# Altium integrated library Analog Devices Data Converters Analog-to-Digital Converters.IntLib: 2404 symbols (part 307 of 346)
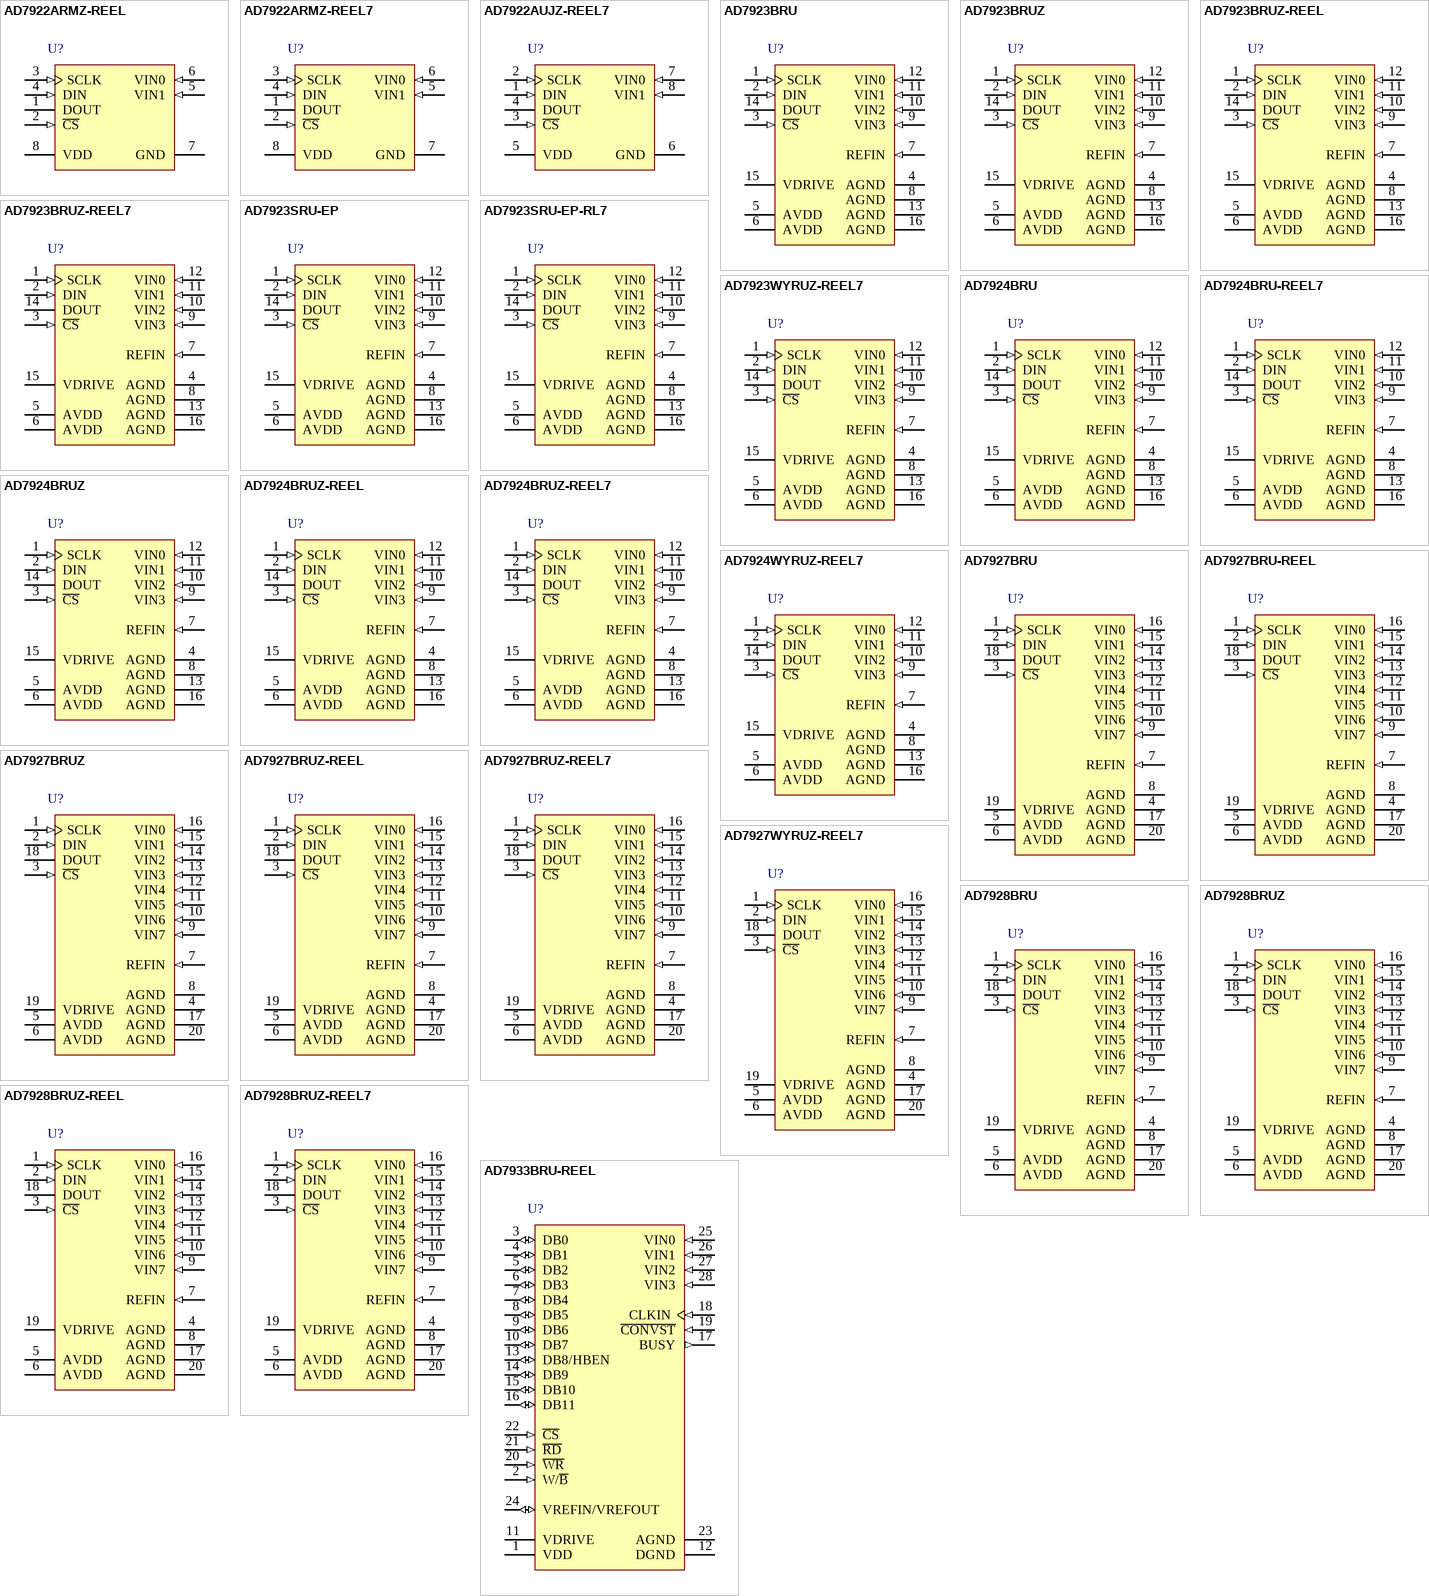
[diagram p319: symbols AD7922ARMZ-REEL to AD7933BRU-REEL]

## AD7923BRUZ
designator U?
Quad 12-Bit Analog-to-Digital Converter with Serial, SPI Interface and Sequencer, 200KSPS, 0 to +70 degC, RU-16, Pb-Free, Tube; Generic Part Number: AD7923; Manufacturer: Analog Devices; PartNumber: AD7923BRUZ; Resolution (Bits): 12; Channels: 4; Throughput Rate (SPS): 200K; Interface: Ser, SPI; Automotive Qualified: Yes; DatasheetVersion: Rev.C; PackageVersion: Nov-2002; PackageReference: RU-16; PackageDescription: 16-Lead Thin Shrink Small Outline Package [TSSOP]; Supplier 1: Digi-Key; Supplier Part Number 1: AD7923BRUZ-ND; Supplier 2: Farnell; Supplier Part Number 2: 8397740; Supplier 3: Newark; Supplier Part Number 3: 19M0906; Supplier 4: Mouser; Supplier Part Number 4: 584-AD7923BRUZ; RoHS: Y; Packing: Tube; Mounting Technology: Surface Mount; Code_JEDEC: MO-153-AB; ComponentLink1Description: Manufacturer URL; ComponentLink1URL: http://www.analog.com/en/index.html; ComponentLink2Description: Datasheet; ComponentLink2URL: http://www.analog.com/static/imported-files/data_sheets/AD7923.pdf; ComponentLink3Description: Package Specification; ComponentLink3URL: http://www.analog.com/static/imported-files/packages/36244347913743854010197452789RU16.pdf; ComponentLink4Description: Product URL; ComponentLink4URL: http://www.analog.com/en/analog-to-digital-converters/ad-converters/ad7923/products/product.html
footprint RU-16_N (TSOP, 16-Leads, Body 5x4.4mm, Pitch 0.65mm, IPC Medium Density)
footprint RU-16_L (TSOP, 16-Leads, Body 5x4.4mm, Pitch 0.65mm, IPC High Density)
footprint RU-16_M (TSOP, 16-Leads, Body 5x4.4mm, Pitch 0.65mm, IPC Low Density)
pins: 1 SCLK (in) "Serial Clock. Logic Input. SCLK provides the serial clock for accessing data for the part. This clock input is also used as the clock source for the AD7923 conversion process.", 2 DIN (in) "Data In. Logic Input. Data to be written to the control register is provided on this input and is clocked into the register on the falling edge of SCLK (see the Control Register Descriptions section).", 3 ~{CS} (in) "Chip Select. Active low logic input. This input provides the dual function of initiating conversions on the AD7923 and framing the serial data transfer", 4 AGND (power) "Analog Ground. Ground reference point for all analog circuitry on the AD7923. All analog input signals and any external reference signal should be referred to this AGND voltage. All AGND pins should be connected together.", 5 AVDD (power) "Analog Power Supply Input. The AVDD range for the AD7923 is from 2.7 V to 5.25 V. For the 0 V to 2 x REFIN range, AVDD should be from 4.75 V to 5.25 V.", 6 AVDD (power) "Analog Power Supply Input. The AVDD range for the AD7923 is from 2.7 V to 5.25 V. For the 0 V to 2 x REFIN range, AVDD should be from 4.75 V to 5.25 V.", 7 REFIN (in) "Reference Input for the AD7923. An external reference must be applied to this input. The voltage range for the external reference is 2.5 V +/- 1% for specified performance.", 8 AGND (power) "Analog Ground. Ground reference point for all analog circuitry on the AD7923. All analog input signals and any external reference signal should be referred to this AGND voltage. All AGND pins should be connected together.", 9 VIN3 (in) "Analog Input 0 through Analog Input 3. Four single-ended analog input channels that are multiplexed into the onchip track-and-hold. The analog input channel to be converted is selected by using the Address Bits ADD1 and ADD0 (See Datasheet)", 10 VIN2 (in) "Analog Input 0 through Analog Input 3. Four single-ended analog input channels that are multiplexed into the onchip track-and-hold. The analog input channel to be converted is selected by using the Address Bits ADD1 and ADD0 (See Datasheet)", 11 VIN1 (in) "Analog Input 0 through Analog Input 3. Four single-ended analog input channels that are multiplexed into the onchip track-and-hold. The analog input channel to be converted is selected by using the Address Bits ADD1 and ADD0 (See Datasheet)", 12 VIN0 (in) "Analog Input 0 through Analog Input 3. Four single-ended analog input channels that are multiplexed into the onchip track-and-hold. The analog input channel to be converted is selected by using the Address Bits ADD1 and ADD0 (See Datasheet)", 13 AGND (power) "Analog Ground. Ground reference point for all analog circuitry on the AD7923. All analog input signals and any external reference signal should be referred to this AGND voltage. All AGND pins should be connected together.", 14 DOUT (hiz) "Data Out. Logic Output. The conversion result from the AD7923 is provided on this output pin as a serial data stream. The AD7923 serial data stream consists of two leading 0s, and two address bits indicating which channel (See Datasheet)", 15 VDRIVE (power) "Logic Power Supply Input. The voltage supplied at this pin determines at which voltage the serial interface operates.", 16 AGND (power) "Analog Ground. Ground reference point for all analog circuitry on the AD7923. All analog input signals and any external reference signal should be referred to this AGND voltage. All AGND pins should be connected together."

## AD7923BRUZ-REEL
designator U?
Quad 12-Bit Analog-to-Digital Converter with Serial, SPI Interface and Sequencer, 200KSPS, 0 to +70 degC, RU-16, Pb-Free, Reel; Generic Part Number: AD7923; Manufacturer: Analog Devices; PartNumber: AD7923BRUZ-REEL; Resolution (Bits): 12; Channels: 4; Throughput Rate (SPS): 200K; Interface: Ser, SPI; Automotive Qualified: Yes; DatasheetVersion: Rev.C; PackageVersion: Nov-2002; PackageReference: RU-16; PackageDescription: 16-Lead Thin Shrink Small Outline Package [TSSOP]; Supplier 1: Digi-Key; Supplier Part Number 1: AD7923BRUZ-REEL-ND; Supplier 2: Newark; Supplier Part Number 2: 59K6011; Supplier 3: Mouser; Supplier Part Number 3: 584-AD7923BRUZ-R; RoHS: Y; Packing: Reel; Mounting Technology: Surface Mount; Code_JEDEC: MO-153-AB; ComponentLink1Description: Manufacturer URL; ComponentLink1URL: http://www.analog.com/en/index.html; ComponentLink2Description: Datasheet; ComponentLink2URL: http://www.analog.com/static/imported-files/data_sheets/AD7923.pdf; ComponentLink3Description: Package Specification; ComponentLink3URL: http://www.analog.com/static/imported-files/packages/36244347913743854010197452789RU16.pdf; ComponentLink4Description: Product URL; ComponentLink4URL: http://www.analog.com/en/analog-to-digital-converters/ad-converters/ad7923/products/product.html
footprint RU-16_N (TSOP, 16-Leads, Body 5x4.4mm, Pitch 0.65mm, IPC Medium Density)
footprint RU-16_L (TSOP, 16-Leads, Body 5x4.4mm, Pitch 0.65mm, IPC High Density)
footprint RU-16_M (TSOP, 16-Leads, Body 5x4.4mm, Pitch 0.65mm, IPC Low Density)
pins: 1 SCLK (in) "Serial Clock. Logic Input. SCLK provides the serial clock for accessing data for the part. This clock input is also used as the clock source for the AD7923 conversion process.", 2 DIN (in) "Data In. Logic Input. Data to be written to the control register is provided on this input and is clocked into the register on the falling edge of SCLK (see the Control Register Descriptions section).", 3 ~{CS} (in) "Chip Select. Active low logic input. This input provides the dual function of initiating conversions on the AD7923 and framing the serial data transfer", 4 AGND (power) "Analog Ground. Ground reference point for all analog circuitry on the AD7923. All analog input signals and any external reference signal should be referred to this AGND voltage. All AGND pins should be connected together.", 5 AVDD (power) "Analog Power Supply Input. The AVDD range for the AD7923 is from 2.7 V to 5.25 V. For the 0 V to 2 x REFIN range, AVDD should be from 4.75 V to 5.25 V.", 6 AVDD (power) "Analog Power Supply Input. The AVDD range for the AD7923 is from 2.7 V to 5.25 V. For the 0 V to 2 x REFIN range, AVDD should be from 4.75 V to 5.25 V.", 7 REFIN (in) "Reference Input for the AD7923. An external reference must be applied to this input. The voltage range for the external reference is 2.5 V +/- 1% for specified performance.", 8 AGND (power) "Analog Ground. Ground reference point for all analog circuitry on the AD7923. All analog input signals and any external reference signal should be referred to this AGND voltage. All AGND pins should be connected together.", 9 VIN3 (in) "Analog Input 0 through Analog Input 3. Four single-ended analog input channels that are multiplexed into the onchip track-and-hold. The analog input channel to be converted is selected by using the Address Bits ADD1 and ADD0 (See Datasheet)", 10 VIN2 (in) "Analog Input 0 through Analog Input 3. Four single-ended analog input channels that are multiplexed into the onchip track-and-hold. The analog input channel to be converted is selected by using the Address Bits ADD1 and ADD0 (See Datasheet)", 11 VIN1 (in) "Analog Input 0 through Analog Input 3. Four single-ended analog input channels that are multiplexed into the onchip track-and-hold. The analog input channel to be converted is selected by using the Address Bits ADD1 and ADD0 (See Datasheet)", 12 VIN0 (in) "Analog Input 0 through Analog Input 3. Four single-ended analog input channels that are multiplexed into the onchip track-and-hold. The analog input channel to be converted is selected by using the Address Bits ADD1 and ADD0 (See Datasheet)", 13 AGND (power) "Analog Ground. Ground reference point for all analog circuitry on the AD7923. All analog input signals and any external reference signal should be referred to this AGND voltage. All AGND pins should be connected together.", 14 DOUT (hiz) "Data Out. Logic Output. The conversion result from the AD7923 is provided on this output pin as a serial data stream. The AD7923 serial data stream consists of two leading 0s, and two address bits indicating which channel (See Datasheet)", 15 VDRIVE (power) "Logic Power Supply Input. The voltage supplied at this pin determines at which voltage the serial interface operates.", 16 AGND (power) "Analog Ground. Ground reference point for all analog circuitry on the AD7923. All analog input signals and any external reference signal should be referred to this AGND voltage. All AGND pins should be connected together."

## AD7923BRUZ-REEL7
designator U?
Quad 12-Bit Analog-to-Digital Converter with Serial, SPI Interface and Sequencer, 200KSPS, 0 to +70 degC, RU-16, Pb-Free, Reel; Generic Part Number: AD7923; Manufacturer: Analog Devices; PartNumber: AD7923BRUZ-REEL7; Resolution (Bits): 12; Channels: 4; Throughput Rate (SPS): 200K; Interface: Ser, SPI; Automotive Qualified: Yes; DatasheetVersion: Rev.C; PackageVersion: Nov-2002; PackageReference: RU-16; PackageDescription: 16-Lead Thin Shrink Small Outline Package [TSSOP]; Supplier 1: Digi-Key; Supplier Part Number 1: AD7923BRUZ-REEL7TR-ND; Supplier 2: Digi-Key; Supplier Part Number 2: AD7923BRUZ-REEL7CT-ND; Supplier 3: Digi-Key; Supplier Part Number 3: AD7923BRUZ-REEL7DKR-ND; Supplier 4: Newark; Supplier Part Number 4: 59K6012; Supplier 5: Mouser; Supplier Part Number 5: 584-AD7923BRUZ-R7; RoHS: Y; Packing: Reel; Mounting Technology: Surface Mount; Code_JEDEC: MO-153-AB; ComponentLink1Description: Manufacturer URL; ComponentLink1URL: http://www.analog.com/en/index.html; ComponentLink2Description: Datasheet; ComponentLink2URL: http://www.analog.com/static/imported-files/data_sheets/AD7923.pdf; ComponentLink3Description: Package Specification; ComponentLink3URL: http://www.analog.com/static/imported-files/packages/36244347913743854010197452789RU16.pdf; ComponentLink4Description: Product URL; ComponentLink4URL: http://www.analog.com/en/analog-to-digital-converters/ad-converters/ad7923/products/product.html
footprint RU-16_N (TSOP, 16-Leads, Body 5x4.4mm, Pitch 0.65mm, IPC Medium Density)
footprint RU-16_L (TSOP, 16-Leads, Body 5x4.4mm, Pitch 0.65mm, IPC High Density)
footprint RU-16_M (TSOP, 16-Leads, Body 5x4.4mm, Pitch 0.65mm, IPC Low Density)
pins: 1 SCLK (in) "Serial Clock. Logic Input. SCLK provides the serial clock for accessing data for the part. This clock input is also used as the clock source for the AD7923 conversion process.", 2 DIN (in) "Data In. Logic Input. Data to be written to the control register is provided on this input and is clocked into the register on the falling edge of SCLK (see the Control Register Descriptions section).", 3 ~{CS} (in) "Chip Select. Active low logic input. This input provides the dual function of initiating conversions on the AD7923 and framing the serial data transfer", 4 AGND (power) "Analog Ground. Ground reference point for all analog circuitry on the AD7923. All analog input signals and any external reference signal should be referred to this AGND voltage. All AGND pins should be connected together.", 5 AVDD (power) "Analog Power Supply Input. The AVDD range for the AD7923 is from 2.7 V to 5.25 V. For the 0 V to 2 x REFIN range, AVDD should be from 4.75 V to 5.25 V.", 6 AVDD (power) "Analog Power Supply Input. The AVDD range for the AD7923 is from 2.7 V to 5.25 V. For the 0 V to 2 x REFIN range, AVDD should be from 4.75 V to 5.25 V.", 7 REFIN (in) "Reference Input for the AD7923. An external reference must be applied to this input. The voltage range for the external reference is 2.5 V +/- 1% for specified performance.", 8 AGND (power) "Analog Ground. Ground reference point for all analog circuitry on the AD7923. All analog input signals and any external reference signal should be referred to this AGND voltage. All AGND pins should be connected together.", 9 VIN3 (in) "Analog Input 0 through Analog Input 3. Four single-ended analog input channels that are multiplexed into the onchip track-and-hold. The analog input channel to be converted is selected by using the Address Bits ADD1 and ADD0 (See Datasheet)", 10 VIN2 (in) "Analog Input 0 through Analog Input 3. Four single-ended analog input channels that are multiplexed into the onchip track-and-hold. The analog input channel to be converted is selected by using the Address Bits ADD1 and ADD0 (See Datasheet)", 11 VIN1 (in) "Analog Input 0 through Analog Input 3. Four single-ended analog input channels that are multiplexed into the onchip track-and-hold. The analog input channel to be converted is selected by using the Address Bits ADD1 and ADD0 (See Datasheet)", 12 VIN0 (in) "Analog Input 0 through Analog Input 3. Four single-ended analog input channels that are multiplexed into the onchip track-and-hold. The analog input channel to be converted is selected by using the Address Bits ADD1 and ADD0 (See Datasheet)", 13 AGND (power) "Analog Ground. Ground reference point for all analog circuitry on the AD7923. All analog input signals and any external reference signal should be referred to this AGND voltage. All AGND pins should be connected together.", 14 DOUT (hiz) "Data Out. Logic Output. The conversion result from the AD7923 is provided on this output pin as a serial data stream. The AD7923 serial data stream consists of two leading 0s, and two address bits indicating which channel (See Datasheet)", 15 VDRIVE (power) "Logic Power Supply Input. The voltage supplied at this pin determines at which voltage the serial interface operates.", 16 AGND (power) "Analog Ground. Ground reference point for all analog circuitry on the AD7923. All analog input signals and any external reference signal should be referred to this AGND voltage. All AGND pins should be connected together."

## AD7923SRU-EP
designator U?
Quad 12-Bit Analog-to-Digital Converter with Serial, SPI Interface and Sequencer, 200KSPS, 0 to +70 degC, RU-16, Tube; Generic Part Number: AD7923; Manufacturer: Analog Devices; PartNumber: AD7923SRU-EP; Resolution (Bits): 12; Channels: 4; Throughput Rate (SPS): 200K; Interface: Ser, SPI; Automotive Qualified: Yes; DatasheetVersion: Rev.0; PackageVersion: Nov-2002; PackageReference: RU-16; PackageDescription: 16-Lead Thin Shrink Small Outline Package [TSSOP]; Supplier 1: Digi-Key; Supplier Part Number 1: AD7923SRU-EP-ND; Supplier 2: Mouser; Supplier Part Number 2: 584-AD7923SRU-EP; RoHS: N; Packing: Tube; Mounting Technology: Surface Mount; Code_JEDEC: MO-153-AB; ComponentLink1Description: Manufacturer URL; ComponentLink1URL: http://www.analog.com/en/index.html; ComponentLink2Description: Datasheet; ComponentLink2URL: http://www.analog.com/static/imported-files/data_sheets/AD7923-EP.pdf; ComponentLink3Description: Package Specification; ComponentLink3URL: http://www.analog.com/static/imported-files/packages/36244347913743854010197452789RU16.pdf; ComponentLink4Description: Product URL; ComponentLink4URL: http://www.analog.com/en/analog-to-digital-converters/ad-converters/ad7923/products/product.html
footprint RU-16_N (TSOP, 16-Leads, Body 5x4.4mm, Pitch 0.65mm, IPC Medium Density)
footprint RU-16_L (TSOP, 16-Leads, Body 5x4.4mm, Pitch 0.65mm, IPC High Density)
footprint RU-16_M (TSOP, 16-Leads, Body 5x4.4mm, Pitch 0.65mm, IPC Low Density)
pins: 1 SCLK (in) "Serial Clock. Logic Input. SCLK provides the serial clock for accessing data for the part. This clock input is also used as the clock source for the AD7923 conversion process.", 2 DIN (in) "Data In. Logic Input. Data to be written to the control register is provided on this input and is clocked into the register on the falling edge of SCLK (see the Control Register Descriptions section).", 3 ~{CS} (in) "Chip Select. Active low logic input. This input provides the dual function of initiating conversions on the AD7923 and framing the serial data transfer", 4 AGND (power) "Analog Ground. Ground reference point for all analog circuitry on the AD7923. All analog input signals and any external reference signal should be referred to this AGND voltage. All AGND pins should be connected together.", 5 AVDD (power) "Analog Power Supply Input. The AVDD range for the AD7923 is from 2.7 V to 5.25 V. For the 0 V to 2 x REFIN range, AVDD should be from 4.75 V to 5.25 V.", 6 AVDD (power) "Analog Power Supply Input. The AVDD range for the AD7923 is from 2.7 V to 5.25 V. For the 0 V to 2 x REFIN range, AVDD should be from 4.75 V to 5.25 V.", 7 REFIN (in) "Reference Input for the AD7923. An external reference must be applied to this input. The voltage range for the external reference is 2.5 V +/- 1% for specified performance.", 8 AGND (power) "Analog Ground. Ground reference point for all analog circuitry on the AD7923. All analog input signals and any external reference signal should be referred to this AGND voltage. All AGND pins should be connected together.", 9 VIN3 (in) "Analog Input 0 through Analog Input 3. Four single-ended analog input channels that are multiplexed into the onchip track-and-hold. The analog input channel to be converted is selected by using the Address Bits ADD1 and ADD0 (See Datasheet)", 10 VIN2 (in) "Analog Input 0 through Analog Input 3. Four single-ended analog input channels that are multiplexed into the onchip track-and-hold. The analog input channel to be converted is selected by using the Address Bits ADD1 and ADD0 (See Datasheet)", 11 VIN1 (in) "Analog Input 0 through Analog Input 3. Four single-ended analog input channels that are multiplexed into the onchip track-and-hold. The analog input channel to be converted is selected by using the Address Bits ADD1 and ADD0 (See Datasheet)", 12 VIN0 (in) "Analog Input 0 through Analog Input 3. Four single-ended analog input channels that are multiplexed into the onchip track-and-hold. The analog input channel to be converted is selected by using the Address Bits ADD1 and ADD0 (See Datasheet)", 13 AGND (power) "Analog Ground. Ground reference point for all analog circuitry on the AD7923. All analog input signals and any external reference signal should be referred to this AGND voltage. All AGND pins should be connected together.", 14 DOUT (hiz) "Data Out. Logic Output. The conversion result from the AD7923 is provided on this output pin as a serial data stream. The AD7923 serial data stream consists of two leading 0s, and two address bits indicating which channel (See Datasheet)", 15 VDRIVE (power) "Logic Power Supply Input. The voltage supplied at this pin determines at which voltage the serial interface operates.", 16 AGND (power) "Analog Ground. Ground reference point for all analog circuitry on the AD7923. All analog input signals and any external reference signal should be referred to this AGND voltage. All AGND pins should be connected together."

## AD7923SRU-EP-RL7
designator U?
Quad 12-Bit Analog-to-Digital Converter with Serial, SPI Interface and Sequencer, 200KSPS, 0 to +70 degC, RU-16, Reel; Generic Part Number: AD7923; Manufacturer: Analog Devices; PartNumber: AD7923SRU-EP-RL7; Resolution (Bits): 12; Channels: 4; Throughput Rate (SPS): 200K; Interface: Ser, SPI; Automotive Qualified: Yes; DatasheetVersion: Rev.0; PackageVersion: Nov-2002; PackageReference: RU-16; PackageDescription: 16-Lead Thin Shrink Small Outline Package [TSSOP]; Supplier 1: Digi-Key; Supplier Part Number 1: AD7923SRU-EP-RL7-ND; Supplier 2: Mouser; Supplier Part Number 2: 584-AD7923SRU-EP-R7; RoHS: N; Packing: Reel; Mounting Technology: Surface Mount; Code_JEDEC: MO-153-AB; ComponentLink1Description: Manufacturer URL; ComponentLink1URL: http://www.analog.com/en/index.html; ComponentLink2Description: Datasheet; ComponentLink2URL: http://www.analog.com/static/imported-files/data_sheets/AD7923-EP.pdf; ComponentLink3Description: Package Specification; ComponentLink3URL: http://www.analog.com/static/imported-files/packages/36244347913743854010197452789RU16.pdf; ComponentLink4Description: Product URL; ComponentLink4URL: http://www.analog.com/en/analog-to-digital-converters/ad-converters/ad7923/products/product.html
footprint RU-16_N (TSOP, 16-Leads, Body 5x4.4mm, Pitch 0.65mm, IPC Medium Density)
footprint RU-16_L (TSOP, 16-Leads, Body 5x4.4mm, Pitch 0.65mm, IPC High Density)
footprint RU-16_M (TSOP, 16-Leads, Body 5x4.4mm, Pitch 0.65mm, IPC Low Density)
pins: 1 SCLK (in) "Serial Clock. Logic Input. SCLK provides the serial clock for accessing data for the part. This clock input is also used as the clock source for the AD7923 conversion process.", 2 DIN (in) "Data In. Logic Input. Data to be written to the control register is provided on this input and is clocked into the register on the falling edge of SCLK (see the Control Register Descriptions section).", 3 ~{CS} (in) "Chip Select. Active low logic input. This input provides the dual function of initiating conversions on the AD7923 and framing the serial data transfer", 4 AGND (power) "Analog Ground. Ground reference point for all analog circuitry on the AD7923. All analog input signals and any external reference signal should be referred to this AGND voltage. All AGND pins should be connected together.", 5 AVDD (power) "Analog Power Supply Input. The AVDD range for the AD7923 is from 2.7 V to 5.25 V. For the 0 V to 2 x REFIN range, AVDD should be from 4.75 V to 5.25 V.", 6 AVDD (power) "Analog Power Supply Input. The AVDD range for the AD7923 is from 2.7 V to 5.25 V. For the 0 V to 2 x REFIN range, AVDD should be from 4.75 V to 5.25 V.", 7 REFIN (in) "Reference Input for the AD7923. An external reference must be applied to this input. The voltage range for the external reference is 2.5 V +/- 1% for specified performance.", 8 AGND (power) "Analog Ground. Ground reference point for all analog circuitry on the AD7923. All analog input signals and any external reference signal should be referred to this AGND voltage. All AGND pins should be connected together.", 9 VIN3 (in) "Analog Input 0 through Analog Input 3. Four single-ended analog input channels that are multiplexed into the onchip track-and-hold. The analog input channel to be converted is selected by using the Address Bits ADD1 and ADD0 (See Datasheet)", 10 VIN2 (in) "Analog Input 0 through Analog Input 3. Four single-ended analog input channels that are multiplexed into the onchip track-and-hold. The analog input channel to be converted is selected by using the Address Bits ADD1 and ADD0 (See Datasheet)", 11 VIN1 (in) "Analog Input 0 through Analog Input 3. Four single-ended analog input channels that are multiplexed into the onchip track-and-hold. The analog input channel to be converted is selected by using the Address Bits ADD1 and ADD0 (See Datasheet)", 12 VIN0 (in) "Analog Input 0 through Analog Input 3. Four single-ended analog input channels that are multiplexed into the onchip track-and-hold. The analog input channel to be converted is selected by using the Address Bits ADD1 and ADD0 (See Datasheet)", 13 AGND (power) "Analog Ground. Ground reference point for all analog circuitry on the AD7923. All analog input signals and any external reference signal should be referred to this AGND voltage. All AGND pins should be connected together.", 14 DOUT (hiz) "Data Out. Logic Output. The conversion result from the AD7923 is provided on this output pin as a serial data stream. The AD7923 serial data stream consists of two leading 0s, and two address bits indicating which channel (See Datasheet)", 15 VDRIVE (power) "Logic Power Supply Input. The voltage supplied at this pin determines at which voltage the serial interface operates.", 16 AGND (power) "Analog Ground. Ground reference point for all analog circuitry on the AD7923. All analog input signals and any external reference signal should be referred to this AGND voltage. All AGND pins should be connected together."

## AD7923WYRUZ-REEL7
designator U?
Quad 12-Bit Analog-to-Digital Converter with Serial, SPI Interface and Sequencer, 200KSPS, -40 to +125 degC, RU-16, Pb-Free, Reel; Generic Part Number: AD7923; Manufacturer: Analog Devices; PartNumber: AD7923WYRUZ-REEL7; Resolution (Bits): 12; Channels: 4; Throughput Rate (SPS): 200K; Interface: Ser, SPI; Automotive Qualified: Yes; DatasheetVersion: Rev.C; PackageVersion: Nov-2002; PackageReference: RU-16; PackageDescription: 16-Lead Thin Shrink Small Outline Package [TSSOP]; Supplier 1: Digi-Key; Supplier Part Number 1: AD7923WYRUZ-REEL7TR-ND; Supplier 2: Digi-Key; Supplier Part Number 2: AD7923WYRUZ-REEL7CT-ND; Supplier 3: Digi-Key; Supplier Part Number 3: AD7923WYRUZ-REEL7DKR-ND; Supplier 4: Mouser; Supplier Part Number 4: 584-AD7923WYRUZ-R7; RoHS: Y; Packing: Reel; Mounting Technology: Surface Mount; Code_JEDEC: MO-153-AB; ComponentLink1Description: Manufacturer URL; ComponentLink1URL: http://www.analog.com/en/index.html; ComponentLink2Description: Datasheet; ComponentLink2URL: http://www.analog.com/static/imported-files/data_sheets/AD7923.pdf; ComponentLink3Description: Package Specification; ComponentLink3URL: http://www.analog.com/static/imported-files/packages/36244347913743854010197452789RU16.pdf; ComponentLink4Description: Product URL; ComponentLink4URL: http://www.analog.com/en/analog-to-digital-converters/ad-converters/ad7923/products/product.html
footprint RU-16_N (TSOP, 16-Leads, Body 5x4.4mm, Pitch 0.65mm, IPC Medium Density)
footprint RU-16_L (TSOP, 16-Leads, Body 5x4.4mm, Pitch 0.65mm, IPC High Density)
footprint RU-16_M (TSOP, 16-Leads, Body 5x4.4mm, Pitch 0.65mm, IPC Low Density)
pins: 1 SCLK (in) "Serial Clock. Logic Input. SCLK provides the serial clock for accessing data for the part. This clock input is also used as the clock source for the AD7923 conversion process.", 2 DIN (in) "Data In. Logic Input. Data to be written to the control register is provided on this input and is clocked into the register on the falling edge of SCLK (see the Control Register Descriptions section).", 3 ~{CS} (in) "Chip Select. Active low logic input. This input provides the dual function of initiating conversions on the AD7923 and framing the serial data transfer", 4 AGND (power) "Analog Ground. Ground reference point for all analog circuitry on the AD7923. All analog input signals and any external reference signal should be referred to this AGND voltage. All AGND pins should be connected together.", 5 AVDD (power) "Analog Power Supply Input. The AVDD range for the AD7923 is from 2.7 V to 5.25 V. For the 0 V to 2 x REFIN range, AVDD should be from 4.75 V to 5.25 V.", 6 AVDD (power) "Analog Power Supply Input. The AVDD range for the AD7923 is from 2.7 V to 5.25 V. For the 0 V to 2 x REFIN range, AVDD should be from 4.75 V to 5.25 V.", 7 REFIN (in) "Reference Input for the AD7923. An external reference must be applied to this input. The voltage range for the external reference is 2.5 V +/- 1% for specified performance.", 8 AGND (power) "Analog Ground. Ground reference point for all analog circuitry on the AD7923. All analog input signals and any external reference signal should be referred to this AGND voltage. All AGND pins should be connected together.", 9 VIN3 (in) "Analog Input 0 through Analog Input 3. Four single-ended analog input channels that are multiplexed into the onchip track-and-hold. The analog input channel to be converted is selected by using the Address Bits ADD1 and ADD0 (See Datasheet)", 10 VIN2 (in) "Analog Input 0 through Analog Input 3. Four single-ended analog input channels that are multiplexed into the onchip track-and-hold. The analog input channel to be converted is selected by using the Address Bits ADD1 and ADD0 (See Datasheet)", 11 VIN1 (in) "Analog Input 0 through Analog Input 3. Four single-ended analog input channels that are multiplexed into the onchip track-and-hold. The analog input channel to be converted is selected by using the Address Bits ADD1 and ADD0 (See Datasheet)", 12 VIN0 (in) "Analog Input 0 through Analog Input 3. Four single-ended analog input channels that are multiplexed into the onchip track-and-hold. The analog input channel to be converted is selected by using the Address Bits ADD1 and ADD0 (See Datasheet)", 13 AGND (power) "Analog Ground. Ground reference point for all analog circuitry on the AD7923. All analog input signals and any external reference signal should be referred to this AGND voltage. All AGND pins should be connected together.", 14 DOUT (hiz) "Data Out. Logic Output. The conversion result from the AD7923 is provided on this output pin as a serial data stream. The AD7923 serial data stream consists of two leading 0s, and two address bits indicating which channel (See Datasheet)", 15 VDRIVE (power) "Logic Power Supply Input. The voltage supplied at this pin determines at which voltage the serial interface operates.", 16 AGND (power) "Analog Ground. Ground reference point for all analog circuitry on the AD7923. All analog input signals and any external reference signal should be referred to this AGND voltage. All AGND pins should be connected together."

## AD7924BRU
designator U?
Quad 12-Bit Analog-to-Digital Converter with Serial, SPI Interface and Sequencer, 1MSPS, -40 to +85 degC, RU-16, Tube; Generic Part Number: AD7924; Manufacturer: Analog Devices; PartNumber: AD7924BRU; Resolution (Bits): 12; Channels: 4; Throughput Rate (SPS): 1M; Interface: Ser, SPI; Automotive Qualified: Yes; DatasheetVersion: Rev.B; PackageVersion: Nov-2002; PackageReference: RU-16; PackageDescription: 16-Lead Thin Shrink Small Outline Package [TSSOP]; Supplier 1: Digi-Key; Supplier Part Number 1: AD7924BRU-ND; Supplier 2: Mouser; Supplier Part Number 2: 584-AD7924BRU; RoHS: N; Packing: Tube; Mounting Technology: Surface Mount; Code_JEDEC: MO-153-AB; ComponentLink1Description: Manufacturer URL; ComponentLink1URL: http://www.analog.com/en/index.html; ComponentLink2Description: Datasheet; ComponentLink2URL: http://www.analog.com/static/imported-files/data_sheets/AD7904_7914_7924.pdf; ComponentLink3Description: Package Specification; ComponentLink3URL: http://www.analog.com/static/imported-files/packages/36244347913743854010197452789RU16.pdf; ComponentLink4Description: Product URL; ComponentLink4URL: http://www.analog.com/en/analog-to-digital-converters/ad-converters/ad7924/products/product.html
footprint RU-16_N (TSOP, 16-Leads, Body 5x4.4mm, Pitch 0.65mm, IPC Medium Density)
footprint RU-16_L (TSOP, 16-Leads, Body 5x4.4mm, Pitch 0.65mm, IPC High Density)
footprint RU-16_M (TSOP, 16-Leads, Body 5x4.4mm, Pitch 0.65mm, IPC Low Density)
pins: 1 SCLK (in) "Serial Clock, Logic Input. SCLK provides the serial clock for accessing data from the part. This clock input is also used as the clock source for the AD7904/AD7914/AD7924 conversion process.", 2 DIN (in) "Data In, Logic Input. Data to be written to the control register of the AD7904/AD7914/AD7924 is provided on this input and is clocked into the register on the falling edge of SCLK (see the Control Register section).", 3 ~{CS} (in) "Chip Select. Active low logic input. This input provides the dual function of initiating conversions on the AD7904/AD7914/AD7924 and frames the serial data transfer.", 4 AGND (power) "Analog Ground. Ground reference point for all analog circuitry on the AD7904/AD7914/AD7924. All analog input signals and any external reference signal should be referred to this AGND voltage. All AGND pins should be (See Datasheet)", 5 AVDD (power) "Analog Power Supply Input. The AVDD range for the AD7904/AD7914/AD7924 is from 2.7 V to 5.25 V. For the 0 V to 2 x REFIN range, AVDD should be from 4.75 V to 5.25 V.", 6 AVDD (power) "Analog Power Supply Input. The AVDD range for the AD7904/AD7914/AD7924 is from 2.7 V to 5.25 V. For the 0 V to 2 x REFIN range, AVDD should be from 4.75 V to 5.25 V.", 7 REFIN (in) "Reference Input for the AD7904/AD7914/AD7924. An external reference must be applied to this input. The voltage range for the external reference is 2.5 V +/- 1% for specified performance.", 8 AGND (power) "Analog Ground. Ground reference point for all analog circuitry on the AD7904/AD7914/AD7924. All analog input signals and any external reference signal should be referred to this AGND voltage. All AGND pins should be (See Datasheet)", 9 VIN3 (in) "Analog Input 0 through Analog Input 3. The four single-ended analog input channels are multiplexed into the on-chip track-and-hold. The analog input channel to be converted is selected using the address bits ADD1 and ADD0 of (See Datasheet)", 10 VIN2 (in) "Analog Input 0 through Analog Input 3. The four single-ended analog input channels are multiplexed into the on-chip track-and-hold. The analog input channel to be converted is selected using the address bits ADD1 and ADD0 of (See Datasheet)", 11 VIN1 (in) "Analog Input 0 through Analog Input 3. The four single-ended analog input channels are multiplexed into the on-chip track-and-hold. The analog input channel to be converted is selected using the address bits ADD1 and ADD0 of (See Datasheet)", 12 VIN0 (in) "Analog Input 0 through Analog Input 3. The four single-ended analog input channels are multiplexed into the on-chip track-and-hold. The analog input channel to be converted is selected using the address bits ADD1 and ADD0 of (See Datasheet)", 13 AGND (power) "Analog Ground. Ground reference point for all analog circuitry on the AD7904/AD7914/AD7924. All analog input signals and any external reference signal should be referred to this AGND voltage. All AGND pins should be (See Datasheet)", 14 DOUT (hiz) "Data Out, Logic Output. The conversion result from the AD7904/AD7914/AD7924 is provided on this output as a serial data stream. The bits are clocked out on the falling edge of the SCLK input. The data stream from the AD7904 (See Datasheet)", 15 VDRIVE (power) "Logic Power Supply Input. The voltage supplied at this pin determines the voltage at which the serial interface of the AD7904/AD7914/AD7924 operates.", 16 AGND (power) "Analog Ground. Ground reference point for all analog circuitry on the AD7904/AD7914/AD7924. All analog input signals and any external reference signal should be referred to this AGND voltage. All AGND pins should be (See Datasheet)"

## AD7924BRU-REEL7
designator U?
Quad 12-Bit Analog-to-Digital Converter with Serial, SPI Interface and Sequencer, 1MSPS, -40 to +85 degC, RU-16, Reel; Generic Part Number: AD7924; Manufacturer: Analog Devices; PartNumber: AD7924BRU-REEL7; Resolution (Bits): 12; Channels: 4; Throughput Rate (SPS): 1M; Interface: Ser, SPI; Automotive Qualified: Yes; DatasheetVersion: Rev.B; PackageVersion: Nov-2002; PackageReference: RU-16; PackageDescription: 16-Lead Thin Shrink Small Outline Package [TSSOP]; Supplier 1: Mouser; Supplier Part Number 1: N/A; RoHS: N; Packing: Reel; Mounting Technology: Surface Mount; Code_JEDEC: MO-153-AB; ComponentLink1Description: Manufacturer URL; ComponentLink1URL: http://www.analog.com/en/index.html; ComponentLink2Description: Datasheet; ComponentLink2URL: http://www.analog.com/static/imported-files/data_sheets/AD7904_7914_7924.pdf; ComponentLink3Description: Package Specification; ComponentLink3URL: http://www.analog.com/static/imported-files/packages/36244347913743854010197452789RU16.pdf; ComponentLink4Description: Product URL; ComponentLink4URL: http://www.analog.com/en/analog-to-digital-converters/ad-converters/ad7924/products/product.html
footprint RU-16_N (TSOP, 16-Leads, Body 5x4.4mm, Pitch 0.65mm, IPC Medium Density)
footprint RU-16_L (TSOP, 16-Leads, Body 5x4.4mm, Pitch 0.65mm, IPC High Density)
footprint RU-16_M (TSOP, 16-Leads, Body 5x4.4mm, Pitch 0.65mm, IPC Low Density)
pins: 1 SCLK (in) "Serial Clock, Logic Input. SCLK provides the serial clock for accessing data from the part. This clock input is also used as the clock source for the AD7904/AD7914/AD7924 conversion process.", 2 DIN (in) "Data In, Logic Input. Data to be written to the control register of the AD7904/AD7914/AD7924 is provided on this input and is clocked into the register on the falling edge of SCLK (see the Control Register section).", 3 ~{CS} (in) "Chip Select. Active low logic input. This input provides the dual function of initiating conversions on the AD7904/AD7914/AD7924 and frames the serial data transfer.", 4 AGND (power) "Analog Ground. Ground reference point for all analog circuitry on the AD7904/AD7914/AD7924. All analog input signals and any external reference signal should be referred to this AGND voltage. All AGND pins should be (See Datasheet)", 5 AVDD (power) "Analog Power Supply Input. The AVDD range for the AD7904/AD7914/AD7924 is from 2.7 V to 5.25 V. For the 0 V to 2 x REFIN range, AVDD should be from 4.75 V to 5.25 V.", 6 AVDD (power) "Analog Power Supply Input. The AVDD range for the AD7904/AD7914/AD7924 is from 2.7 V to 5.25 V. For the 0 V to 2 x REFIN range, AVDD should be from 4.75 V to 5.25 V.", 7 REFIN (in) "Reference Input for the AD7904/AD7914/AD7924. An external reference must be applied to this input. The voltage range for the external reference is 2.5 V +/- 1% for specified performance.", 8 AGND (power) "Analog Ground. Ground reference point for all analog circuitry on the AD7904/AD7914/AD7924. All analog input signals and any external reference signal should be referred to this AGND voltage. All AGND pins should be (See Datasheet)", 9 VIN3 (in) "Analog Input 0 through Analog Input 3. The four single-ended analog input channels are multiplexed into the on-chip track-and-hold. The analog input channel to be converted is selected using the address bits ADD1 and ADD0 of (See Datasheet)", 10 VIN2 (in) "Analog Input 0 through Analog Input 3. The four single-ended analog input channels are multiplexed into the on-chip track-and-hold. The analog input channel to be converted is selected using the address bits ADD1 and ADD0 of (See Datasheet)", 11 VIN1 (in) "Analog Input 0 through Analog Input 3. The four single-ended analog input channels are multiplexed into the on-chip track-and-hold. The analog input channel to be converted is selected using the address bits ADD1 and ADD0 of (See Datasheet)", 12 VIN0 (in) "Analog Input 0 through Analog Input 3. The four single-ended analog input channels are multiplexed into the on-chip track-and-hold. The analog input channel to be converted is selected using the address bits ADD1 and ADD0 of (See Datasheet)", 13 AGND (power) "Analog Ground. Ground reference point for all analog circuitry on the AD7904/AD7914/AD7924. All analog input signals and any external reference signal should be referred to this AGND voltage. All AGND pins should be (See Datasheet)", 14 DOUT (hiz) "Data Out, Logic Output. The conversion result from the AD7904/AD7914/AD7924 is provided on this output as a serial data stream. The bits are clocked out on the falling edge of the SCLK input. The data stream from the AD7904 (See Datasheet)", 15 VDRIVE (power) "Logic Power Supply Input. The voltage supplied at this pin determines the voltage at which the serial interface of the AD7904/AD7914/AD7924 operates.", 16 AGND (power) "Analog Ground. Ground reference point for all analog circuitry on the AD7904/AD7914/AD7924. All analog input signals and any external reference signal should be referred to this AGND voltage. All AGND pins should be (See Datasheet)"

## AD7924BRUZ
designator U?
Quad 12-Bit Analog-to-Digital Converter with Serial, SPI Interface and Sequencer, 1MSPS, 0 to +70 degC, RU-16, Pb-Free, Tube; Generic Part Number: AD7924; Manufacturer: Analog Devices; PartNumber: AD7924BRUZ; Resolution (Bits): 12; Channels: 4; Throughput Rate (SPS): 1M; Interface: Ser, SPI; Automotive Qualified: Yes; DatasheetVersion: Rev.B; PackageVersion: Nov-2002; PackageReference: RU-16; PackageDescription: 16-Lead Thin Shrink Small Outline Package [TSSOP]; Supplier 1: Digi-Key; Supplier Part Number 1: AD7924BRUZ-ND; Supplier 2: Farnell; Supplier Part Number 2: 8397759; Supplier 3: Newark; Supplier Part Number 3: 31M4406; Supplier 4: Newark; Supplier Part Number 4: 88H0082; Supplier 5: Mouser; Supplier Part Number 5: 584-AD7924BRUZ; RoHS: Y; Packing: Tube; Mounting Technology: Surface Mount; Code_JEDEC: MO-153-AB; ComponentLink1Description: Manufacturer URL; ComponentLink1URL: http://www.analog.com/en/index.html; ComponentLink2Description: Datasheet; ComponentLink2URL: http://www.analog.com/static/imported-files/data_sheets/AD7904_7914_7924.pdf; ComponentLink3Description: Package Specification; ComponentLink3URL: http://www.analog.com/static/imported-files/packages/36244347913743854010197452789RU16.pdf; ComponentLink4Description: Product URL; ComponentLink4URL: http://www.analog.com/en/analog-to-digital-converters/ad-converters/ad7924/products/product.html
footprint RU-16_N (TSOP, 16-Leads, Body 5x4.4mm, Pitch 0.65mm, IPC Medium Density)
footprint RU-16_L (TSOP, 16-Leads, Body 5x4.4mm, Pitch 0.65mm, IPC High Density)
footprint RU-16_M (TSOP, 16-Leads, Body 5x4.4mm, Pitch 0.65mm, IPC Low Density)
pins: 1 SCLK (in) "Serial Clock, Logic Input. SCLK provides the serial clock for accessing data from the part. This clock input is also used as the clock source for the AD7904/AD7914/AD7924 conversion process.", 2 DIN (in) "Data In, Logic Input. Data to be written to the control register of the AD7904/AD7914/AD7924 is provided on this input and is clocked into the register on the falling edge of SCLK (see the Control Register section).", 3 ~{CS} (in) "Chip Select. Active low logic input. This input provides the dual function of initiating conversions on the AD7904/AD7914/AD7924 and frames the serial data transfer.", 4 AGND (power) "Analog Ground. Ground reference point for all analog circuitry on the AD7904/AD7914/AD7924. All analog input signals and any external reference signal should be referred to this AGND voltage. All AGND pins should be (See Datasheet)", 5 AVDD (power) "Analog Power Supply Input. The AVDD range for the AD7904/AD7914/AD7924 is from 2.7 V to 5.25 V. For the 0 V to 2 x REFIN range, AVDD should be from 4.75 V to 5.25 V.", 6 AVDD (power) "Analog Power Supply Input. The AVDD range for the AD7904/AD7914/AD7924 is from 2.7 V to 5.25 V. For the 0 V to 2 x REFIN range, AVDD should be from 4.75 V to 5.25 V.", 7 REFIN (in) "Reference Input for the AD7904/AD7914/AD7924. An external reference must be applied to this input. The voltage range for the external reference is 2.5 V +/- 1% for specified performance.", 8 AGND (power) "Analog Ground. Ground reference point for all analog circuitry on the AD7904/AD7914/AD7924. All analog input signals and any external reference signal should be referred to this AGND voltage. All AGND pins should be (See Datasheet)", 9 VIN3 (in) "Analog Input 0 through Analog Input 3. The four single-ended analog input channels are multiplexed into the on-chip track-and-hold. The analog input channel to be converted is selected using the address bits ADD1 and ADD0 of (See Datasheet)", 10 VIN2 (in) "Analog Input 0 through Analog Input 3. The four single-ended analog input channels are multiplexed into the on-chip track-and-hold. The analog input channel to be converted is selected using the address bits ADD1 and ADD0 of (See Datasheet)", 11 VIN1 (in) "Analog Input 0 through Analog Input 3. The four single-ended analog input channels are multiplexed into the on-chip track-and-hold. The analog input channel to be converted is selected using the address bits ADD1 and ADD0 of (See Datasheet)", 12 VIN0 (in) "Analog Input 0 through Analog Input 3. The four single-ended analog input channels are multiplexed into the on-chip track-and-hold. The analog input channel to be converted is selected using the address bits ADD1 and ADD0 of (See Datasheet)", 13 AGND (power) "Analog Ground. Ground reference point for all analog circuitry on the AD7904/AD7914/AD7924. All analog input signals and any external reference signal should be referred to this AGND voltage. All AGND pins should be (See Datasheet)", 14 DOUT (hiz) "Data Out, Logic Output. The conversion result from the AD7904/AD7914/AD7924 is provided on this output as a serial data stream. The bits are clocked out on the falling edge of the SCLK input. The data stream from the AD7904 (See Datasheet)", 15 VDRIVE (power) "Logic Power Supply Input. The voltage supplied at this pin determines the voltage at which the serial interface of the AD7904/AD7914/AD7924 operates.", 16 AGND (power) "Analog Ground. Ground reference point for all analog circuitry on the AD7904/AD7914/AD7924. All analog input signals and any external reference signal should be referred to this AGND voltage. All AGND pins should be (See Datasheet)"